# EAGLE library part LMZ21700 (library ORBiT-IC-TI)
TI LMZ21700 3V to 17V, 0.65A Step-Down DC/DC Power Module The LMZ21700 Nano Module is an easy-to-use step-down DC/DC solution capable of driving up to 650-mA load in space-constrained applications. Only an input capacitor, an output capacitor, a soft-start capacitor, and two resistors are required for basic operation. Technical data: LMZ21700 <http://www.ti.com/product/LMZ21700>
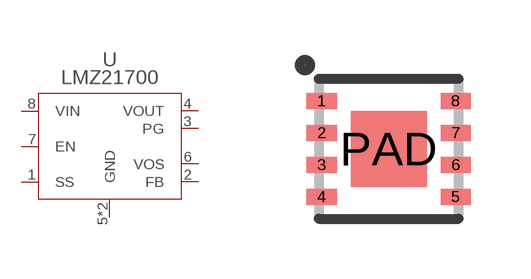
[diagram p1: symbol with the pads of MICROSIP-8; footprint MICROSIP-8]

Designator prefix U

## LMZ21700 (MF: Texas Instruments; MPN: LMZ21700SILR; PN_DIGIKEY: 296-44325-1-ND; PN_MOUSER: 595-LMZ21700SILR)  [MICROSIP-8]
1  SS  pas
2  FB  pas
3  PG  pas
4  VOUT  pas
5  GND  pas
6  VOS  pas
7  EN  pas
8  VIN  pas
PAD  GND  pas

## Footprint MICROSIP-8 (pad centres in mm)
Micro System-in-package - 8 pin TI SIL0008E
smd 0.755 x 0.4: 1 -1.677,1.2; 2 -1.677,0.4; 3 -1.677,-0.4; 4 -1.677,-1.2; 5 1.677,-1.2; 6 1.677,-0.4; 7 1.677,0.4; 8 1.677,1.2
smd 1.9 x 1.9: PAD 0,0